# EAGLE library part *366 (library digital)
74xx366: Hex tri-state buffer Inverting
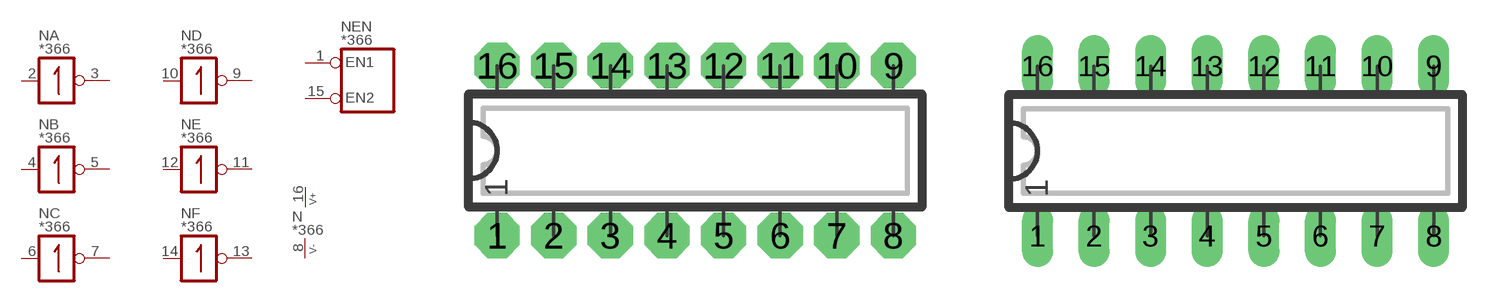
[diagram p23: symbol with the pads of DIP16N; footprints DIP16N, DIP16L]

Designator prefix N; gates A=INV B=INV C=INV D=INV E=INV F=INV EN=ENABLE2 P=V+-

## 74366N, 74HC366N, 74HCT366N, 74LS366N  [DIP16N]
1  EN:EN1  in
2  A:I  in
3  A:O  out
4  B:I  in
5  B:O  out
6  C:I  in
7  C:O  out
8  P:V-  pwr
9  D:O  out
10  D:I  in
11  E:O  out
12  E:I  in
13  F:O  out
14  F:I  in
15  EN:EN2  in
16  P:V+  pwr

## 74366, 74HC366, 74HCT366, 74LS366  [DIP16L]
Pads as for DIP16N

## 74366L, 74HC366L, 74HCT366L, 74LS366L  [DIP16L]
Pads as for DIP16N

## 74366R, 74HC366R, 74HCT366R, 74LS366R  [DIP16R]
Pads as for DIP16N

## 74HC366S, 74HCT366S  [SO16]
Pads as for DIP16N

## Footprint DIP16N (pad centres in mm)
DIP-16 Standard IC package, 16 pins
drill 0.813 pad 2.032 octagon: 1 0,0; 2 2.54,0; 3 5.08,0; 4 7.62,0; 5 10.16,0; 6 12.7,0; 7 15.24,0; 8 17.78,0; 9 17.78,7.62; 10 15.24,7.62; 11 12.7,7.62; 12 10.16,7.62; 13 7.62,7.62; 14 5.08,7.62; 15 2.54,7.62; 16 0,7.62

## Footprint DIP16L (pad centres in mm)
DIP-16, long pads Standard IC package, 16 pins
drill 0.813 pad 1.397 long: 1 0,0; 2 2.54,0; 3 5.08,0; 4 7.62,0; 5 10.16,0; 6 12.7,0; 7 15.24,0; 8 17.78,0; 9 17.78,7.62; 10 15.24,7.62; 11 12.7,7.62; 12 10.16,7.62; 13 7.62,7.62; 14 5.08,7.62; 15 2.54,7.62; 16 0,7.62

## Footprint DIP16R (pad centres in mm)
DIP-16, reduced pads Standard IC package, 16 pins
drill 0.813 pad 1.397 square: 1 0,0; 2 2.54,0; 3 5.08,0; 4 7.62,0; 5 10.16,0; 6 12.7,0; 7 15.24,0; 8 17.78,0; 9 17.78,7.62; 10 15.24,7.62; 11 12.7,7.62; 12 10.16,7.62; 13 7.62,7.62; 14 5.08,7.62; 15 2.54,7.62; 16 0,7.62

## Footprint SO16 (pad centres in mm)
SO-16, SMD SOIC IC package, 16 pins
smd 0.635 x 1.778: 1 -4.445,-2.857; 2 -3.175,-2.857; 3 -1.905,-2.857; 4 -0.635,-2.857; 5 0.635,-2.857; 6 1.905,-2.857; 7 3.175,-2.857; 8 4.445,-2.857; 9 4.445,2.857; 10 3.175,2.857; 11 1.905,2.857; 12 0.635,2.857; 13 -0.635,2.857; 14 -1.905,2.857; 15 -3.175,2.857; 16 -4.445,2.857